# EAGLE library part MCP1640BT-I_CHY (library power)
Microchip MCP1640BT-I/CHY, Boost Converter, Step Up 0.35A Adjustable, 2 5.5 V, 575 kHz, 6-pin SOT-23 Source: Datasheet <http://docs-emea.rs-online.com/webdocs/137e/0900766b8137ea94.pdf>
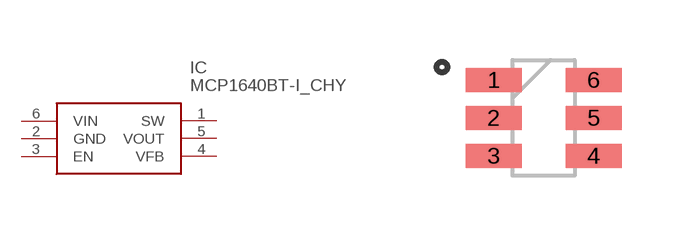
[diagram p6: symbol with the pads of SOT95P270X145-6N; footprint SOT95P270X145-6N]

Designator prefix IC

## MCP1640BT-I_CHY (ALLIED_NUMBER: 70047503; ALLIED_PRICE-STOCK: http://www.alliedelec.com/microchip-technology-inc-mcp1640bt-i-chy/70047503/; DESCRIPTION: Microchip MCP1640BT-I/CHY, Boost Converter, Step Up 0.35A Adjustable, 2 5.5 V, 575 kHz, 6-pin SOT-23; HEIGHT: 1.45mm; MANUFACTURER_NAME: Microchip; MANUFACTURER_PART_NUMBER: MCP1640BT-I/CHY; MOUSER_PART_NUMBER: 579-MCP1640BT-I/CHY; MOUSER_PRICE-STOCK: https://www.mouser.com/Search/Refine.aspx?Keyword=579-MCP1640BT-I%2FCHY; RS_PART_NUMBER: 1653359; RS_PRICE-STOCK: http://uk.rs-online.com/web/p/products/1653359)  [SOT95P270X145-6N]
1  SW
2  GND  pwr
3  EN
4  VFB
5  VOUT  out
6  VIN  in

## Footprint SOT95P270X145-6N (pad centres in mm)
(CHY)(SOT-23)
smd 1.4 x 0.6: 1 -1.25,0.95; 2 -1.25,0; 3 -1.25,-0.95; 4 1.25,-0.95; 5 1.25,0; 6 1.25,0.95